# Altium footprint library Texas_Instruments.PcbLib: 113 footprints (part 4 of 8)
Each footprint in its own frame and in the unit in brackets; x right, y up, seen from the top. Pads: shape width x height; smd on the part's side, far side on the other; paste and mask are expansions set on the pad; w line width, h text height; cw(c..) or ccw(c..) is an arc to the next point about the centre after c.
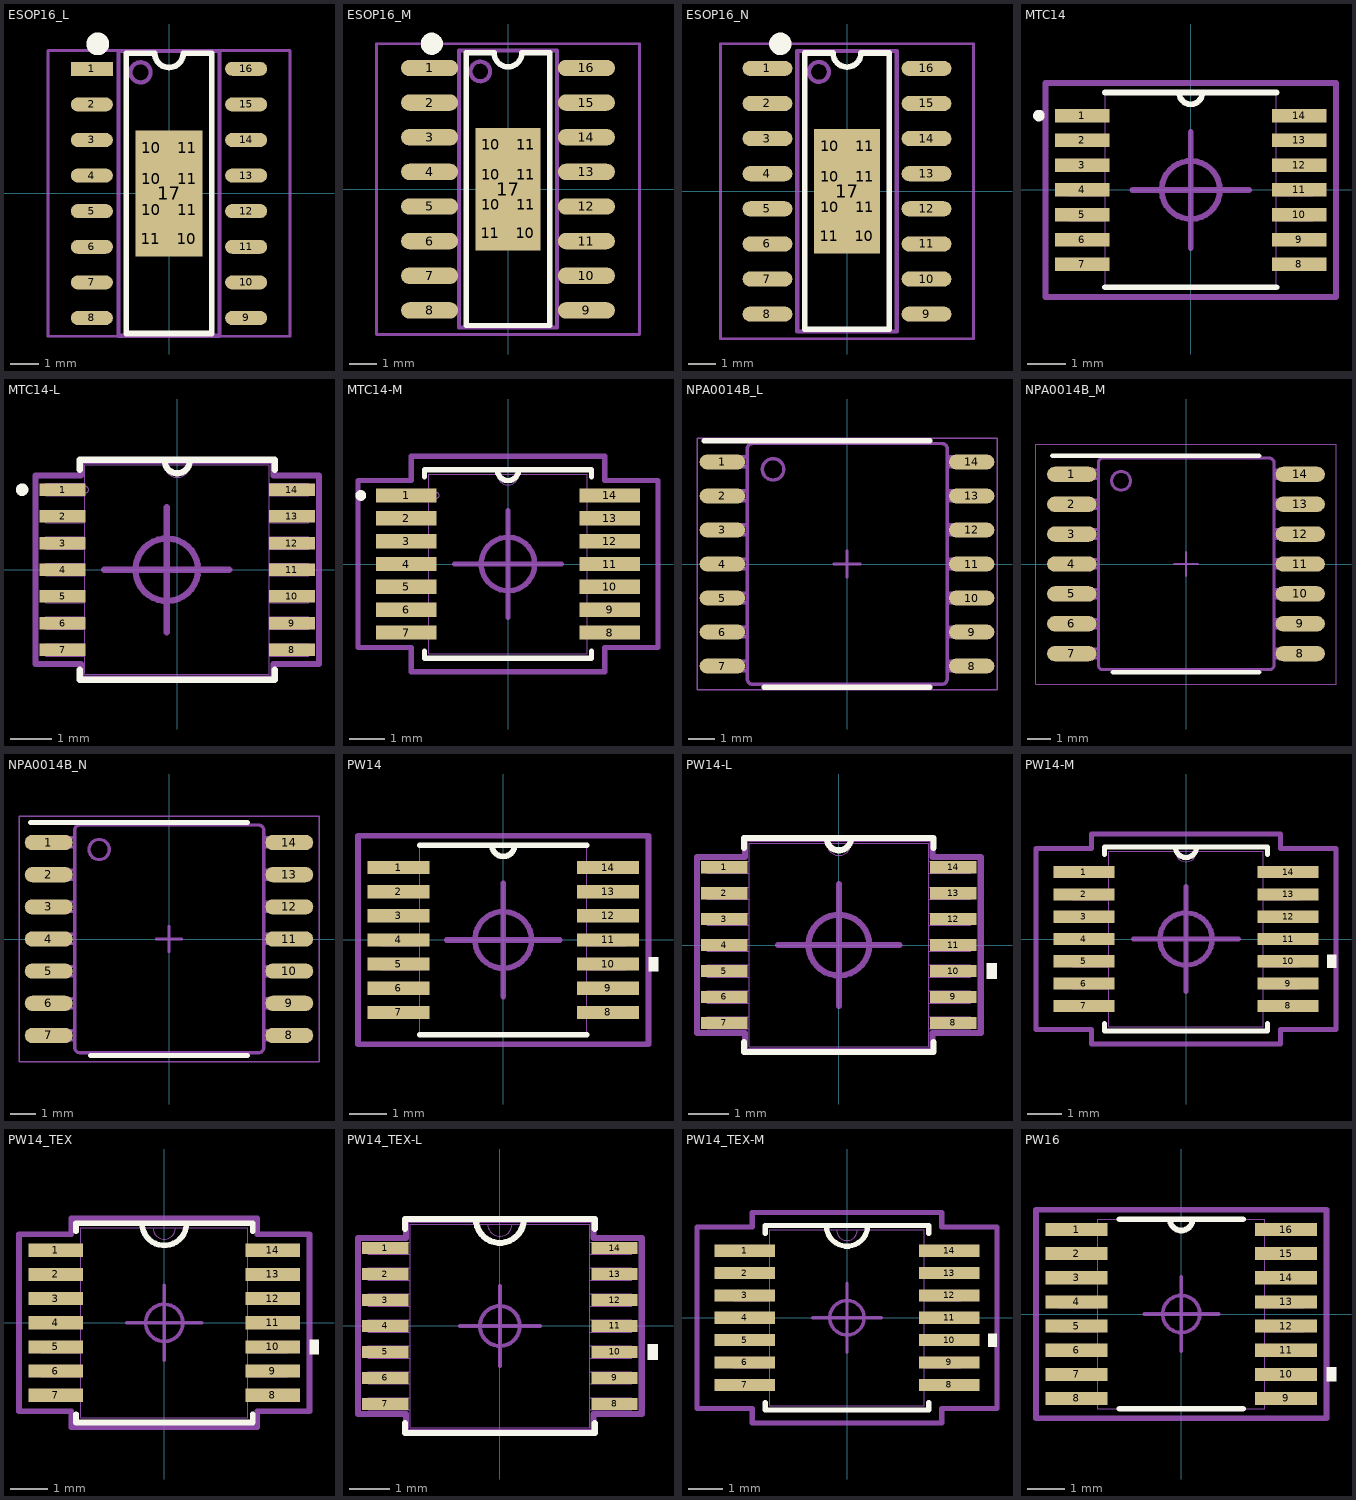
[diagram p3: the footprints below, top view; thin cyan lines are the x and y axes]

## ESOP16_L [mm] "10.3*6.2*1.8mm（长宽高）"
height 1.75
pads (25):
  rect 1.5x0.5 smd: 1(-2.752,4.445)
  oval 1.5x0.5 smd: 2(-2.752,3.175) 3(-2.752,1.905) 4(-2.752,0.635) 5(-2.752,-0.635) 6(-2.752,-1.905) 7(-2.752,-3.175) 8(-2.752,-4.445) 9(2.752,-4.445) 10(2.752,-3.175) 11(2.752,-1.905) 12(2.752,-0.635) 13(2.752,0.635) 14(2.752,1.905) 15(2.752,3.175) 16(2.752,4.445)
  rect 0.9x0.7 on Top Paste: 10(-0.625,-0.575) 10(-0.625,0.525) 10(-0.625,1.625) 10(0.625,-1.625) 11(-0.65,-1.625) 11(0.65,-0.575) 11(0.65,0.525) 11(0.65,1.625)
  rect 2.4x4.5 smd paste-3: 17(0,0)
Top Overlay:
  circle w0.5: c-2.54,5.334 r0.155
  lines w0.2: -1.524,5 -1.524,-5 1.524,-5 1.524,5
  lines w0.203: -1.524,5 -0.508,5 ccw(c0,5) 0,4.492 ccw(c0,5) 0.508,5 1.524,5
Mechanical 13:
  circle w0.15: c-1.016,4.318 r0.359
  lines w0.15: -1.8,-5.08 -1.8,5.08 1.8,5.08 1.8,-5.08 -1.8,-5.08
Mechanical 15:
  circle w0.05: c0,0 r0.35
  lines w0.05: -0.5,0 0.5,0 ; 0,-0.5 0,0.5
  lines w0.1: -4.318,-5.1 4.318,-5.1 4.318,5.1 -4.318,5.1 -4.318,-5.1
3D body "ESOP16.STEP": height 1.53, standoff -0.03, extent -3.003,-5 3.003,5

## ESOP16_M [mm] "10.3*6.2*1.8mm（长宽高）"
height 1.75
pads (25):
  oval 2.1x0.6 smd: 1(-2.875,4.445) 2(-2.875,3.175) 3(-2.875,1.905) 4(-2.875,0.635) 5(-2.875,-0.635) 6(-2.875,-1.905) 7(-2.875,-3.175) 8(-2.875,-4.445) 9(2.875,-4.445) 10(2.875,-3.175) 11(2.875,-1.905) 12(2.875,-0.635) 13(2.875,0.635) 14(2.875,1.905) 15(2.875,3.175) 16(2.875,4.445)
  rect 0.9x0.7 on Top Paste: 10(-0.625,-0.575) 10(-0.625,0.525) 10(-0.625,1.625) 10(0.625,-1.625) 11(-0.65,-1.625) 11(0.65,-0.575) 11(0.65,0.525) 11(0.65,1.625)
  rect 2.4x4.5 smd paste-3: 17(0,0)
Top Overlay:
  circle w0.5: c-2.794,5.334 r0.155
  lines w0.2: -1.524,5 -1.524,-5 1.524,-5 1.524,5
  lines w0.203: -1.524,5 -0.508,5 ccw(c0,5) 0,4.492 ccw(c0,5) 0.508,5 1.524,5
Mechanical 13:
  circle w0.15: c-1.016,4.318 r0.359
  lines w0.15: -1.8,-5.08 1.8,-5.08 1.8,5.08 -1.8,5.08 -1.8,-5.08
Mechanical 15:
  circle w0.05: c0,0 r0.35
  lines w0.05: -0.5,0 0.5,0 ; 0,-0.5 0,0.5
  lines w0.1: -4.826,-5.334 -4.826,5.334 4.826,5.334 4.826,-5.334 -4.826,-5.334
3D body "ESOP16.STEP": height 1.53, standoff -0.03, extent -3.003,-5 3.003,5

## ESOP16_N [mm] "10.3*6.2*1.8mm（长宽高）"
height 1.75
pads (25):
  oval 1.8x0.55 smd: 1(-2.877,4.445) 2(-2.877,3.175) 3(-2.877,1.905) 4(-2.877,0.635) 5(-2.877,-0.635) 6(-2.877,-1.905) 7(-2.877,-3.175) 8(-2.877,-4.445) 9(2.877,-4.445) 10(2.877,-3.175) 11(2.877,-1.905) 12(2.877,-0.635) 13(2.877,0.635) 14(2.877,1.905) 15(2.877,3.175) 16(2.877,4.445)
  rect 0.9x0.7 on Top Paste: 10(-0.625,-0.575) 10(-0.625,0.525) 10(-0.625,1.625) 10(0.625,-1.625) 11(-0.65,-1.625) 11(0.65,-0.575) 11(0.65,0.525) 11(0.65,1.625)
  rect 2.4x4.5 smd paste-3: 17(0,0)
Top Overlay:
  circle w0.5: c-2.413,5.334 r0.155
  lines w0.2: -1.524,5 -1.524,-5 1.524,-5 1.524,5
  lines w0.203: -1.524,5 -0.508,5 ccw(c0,5) 0,4.492 ccw(c0,5) 0.508,5 1.524,5
Mechanical 13:
  circle w0.15: c-1.016,4.318 r0.359
  lines w0.15: -1.8,-5.08 1.8,-5.08 1.8,5.08 -1.8,5.08 -1.8,-5.08
Mechanical 15:
  circle w0.05: c0,0 r0.35
  lines w0.05: -0.5,0 0.5,0 ; 0,-0.5 0,0.5
  lines w0.1: -4.572,-5.334 4.572,-5.334 4.572,5.334 -4.572,5.334 -4.572,-5.334
3D body "ESOP16.STEP": height 1.53, standoff -0.03, extent -3.003,-5 3.003,5

## MTC14 [mil]
pads (14):
  rect 56x14 smd: 1(-112,76.77) 2(-112,51.18) 3(-112,25.59) 4(-112,0) 5(-112,-25.59) 6(-112,-51.18) 7(-112,-76.77) 8(112,-76.77) 9(112,-51.18) 10(112,-25.59) 11(112,0) 12(112,25.59) 13(112,51.18) 14(112,76.77)
Top Overlay:
  circle w6: c-156.8,76.77 r3
  lines w6: -88.5,-100.5 88.5,-100.5 ; -88.5,100.5 88.5,100.5 ; -12,100.5 ccw(c0,100.5) 12,100.5
Mechanical 13:
  circle w0: c-156.8,76.77 r3
  lines w0: -12,100.5 ccw(c0,100.5) 12,100.5
  lines w1: -126,-82.77 -88.5,-82.77 -88.5,-70.77 -126,-70.77 -126,-82.77 ; -126,-57.18 -88.5,-57.18 -88.5,-45.18 -126,-45.18 -126,-57.18 ; -126,-31.59 -88.5,-31.59 -88.5,-19.59 -126,-19.59 -126,-31.59 ; -126,-6 -88.5,-6 -88.5,6 -126,6 -126,-6 ; -126,19.59 -88.5,19.59 -88.5,31.59 -126,31.59 -126,19.59 ; -126,45.18 -88.5,45.18 -88.5,57.18 -126,57.18 -126,45.18 ; -126,70.77 -88.5,70.77 -88.5,82.77 -126,82.77 -126,70.77 ; -88.5,-100.5 -88.5,100.5 88.5,100.5 88.5,-100.5 -88.5,-100.5 ; 88.5,-82.77 126,-82.77 126,-70.77 88.5,-70.77 88.5,-82.77 ; 88.5,-57.18 126,-57.18 126,-45.18 88.5,-45.18 88.5,-57.18 ; 88.5,-31.59 126,-31.59 126,-19.59 88.5,-19.59 88.5,-31.59 ; 88.5,-6 126,-6 126,6 88.5,6 88.5,-6 ; 88.5,19.59 126,19.59 126,31.59 88.5,31.59 88.5,19.59 ; 88.5,45.18 126,45.18 126,57.18 88.5,57.18 88.5,45.18 ; 88.5,70.77 126,70.77 126,82.77 88.5,82.77 88.5,70.77
Mechanical 15:
  circle w6: c0,0 r30
  lines w6: -60,0 60,0 ; 0,-60 0,60 ; -150,-110.5 150,-110.5 150,110.5 -150,110.5 -150,-110.5
3D body "MTC14.step": height 43.11, standoff 0, extent -125.98,-100.51 125.99,100.52

## MTC14-L [mil]
pads (14):
  rect 44x12 smd: 1(-110,76.77) 2(-110,51.18) 3(-110,25.59) 4(-110,0) 5(-110,-25.59) 6(-110,-51.18) 7(-110,-76.77) 8(110,-76.77) 9(110,-51.18) 10(110,-25.59) 11(110,0) 12(110,25.59) 13(110,51.18) 14(110,76.77)
Top Overlay:
  circle w6: c-148.8,76.77 r3
  lines w6: -93.5,-95.87 -93.5,-105.5 93.5,-105.5 93.5,-95.87 ; -93.5,95.87 -93.5,105.5 93.5,105.5 93.5,95.87 ; -12,104.5 ccw(c0,104.5) 12,104.5
Mechanical 13:
  circle w0: c-88,76.77 r3
  lines w0: -12,100.5 ccw(c0,100.5) 12,100.5
  lines w1: -126,-82.77 -88.5,-82.77 -88.5,-70.77 -126,-70.77 -126,-82.77 ; -126,-57.18 -88.5,-57.18 -88.5,-45.18 -126,-45.18 -126,-57.18 ; -126,-31.59 -88.5,-31.59 -88.5,-19.59 -126,-19.59 -126,-31.59 ; -126,-6 -88.5,-6 -88.5,6 -126,6 -126,-6 ; -126,19.59 -88.5,19.59 -88.5,31.59 -126,31.59 -126,19.59 ; -126,45.18 -88.5,45.18 -88.5,57.18 -126,57.18 -126,45.18 ; -126,70.77 -88.5,70.77 -88.5,82.77 -126,82.77 -126,70.77 ; -88.5,-100.5 -88.5,100.5 88.5,100.5 88.5,-100.5 -88.5,-100.5 ; 88.5,-82.77 126,-82.77 126,-70.77 88.5,-70.77 88.5,-82.77 ; 88.5,-57.18 126,-57.18 126,-45.18 88.5,-45.18 88.5,-57.18 ; 88.5,-31.59 126,-31.59 126,-19.59 88.5,-19.59 88.5,-31.59 ; 88.5,-6 126,-6 126,6 88.5,6 88.5,-6 ; 88.5,19.59 126,19.59 126,31.59 88.5,31.59 88.5,19.59 ; 88.5,45.18 126,45.18 126,57.18 88.5,57.18 88.5,45.18 ; 88.5,70.77 126,70.77 126,82.77 88.5,82.77 88.5,70.77
Mechanical 15:
  circle w6: c-10,0 r30
  lines w6: -70,0 50,0 ; -10,-60 -10,60 ; -136,-90.37 -92.5,-90.37 -92.5,-104.5 92.5,-104.5 92.5,-90.37 136,-90.37 136,90.37 92.5,90.37 92.5,104.5 -92.5,104.5 -92.5,90.37 -136,90.37 -136,-90.37
3D body "MTC14.step": height 43.11, standoff 0, extent -125.98,-100.51 125.99,100.52

## MTC14-M [mil]
pads (14):
  rect 68x16 smd: 1(-114,76.77) 2(-114,51.18) 3(-114,25.59) 4(-114,0) 5(-114,-25.59) 6(-114,-51.18) 7(-114,-76.77) 8(114,-76.77) 9(114,-51.18) 10(114,-25.59) 11(114,0) 12(114,25.59) 13(114,51.18) 14(114,76.77)
Top Overlay:
  circle w6: c-164.8,76.77 r3
  lines w6: -93.5,-97.87 -93.5,-105.5 93.5,-105.5 93.5,-97.87 ; -93.5,97.87 -93.5,105.5 93.5,105.5 93.5,97.87 ; -12,105.5 ccw(c0,105.5) 12,105.5
Mechanical 13:
  circle w0: c-80,76.77 r3
  lines w0: -12,100.5 ccw(c0,100.5) 12,100.5
  lines w1: -126,-82.77 -88.5,-82.77 -88.5,-70.77 -126,-70.77 -126,-82.77 ; -126,-57.18 -88.5,-57.18 -88.5,-45.18 -126,-45.18 -126,-57.18 ; -126,-31.59 -88.5,-31.59 -88.5,-19.59 -126,-19.59 -126,-31.59 ; -126,-6 -88.5,-6 -88.5,6 -126,6 -126,-6 ; -126,19.59 -88.5,19.59 -88.5,31.59 -126,31.59 -126,19.59 ; -126,45.18 -88.5,45.18 -88.5,57.18 -126,57.18 -126,45.18 ; -126,70.77 -88.5,70.77 -88.5,82.77 -126,82.77 -126,70.77 ; -88.5,-100.5 -88.5,100.5 88.5,100.5 88.5,-100.5 -88.5,-100.5 ; 88.5,-82.77 126,-82.77 126,-70.77 88.5,-70.77 88.5,-82.77 ; 88.5,-57.18 126,-57.18 126,-45.18 88.5,-45.18 88.5,-57.18 ; 88.5,-31.59 126,-31.59 126,-19.59 88.5,-19.59 88.5,-31.59 ; 88.5,-6 126,-6 126,6 88.5,6 88.5,-6 ; 88.5,19.59 126,19.59 126,31.59 88.5,31.59 88.5,19.59 ; 88.5,45.18 126,45.18 126,57.18 88.5,57.18 88.5,45.18 ; 88.5,70.77 126,70.77 126,82.77 88.5,82.77 88.5,70.77
Mechanical 15:
  circle w6: c0,0 r30
  lines w6: -60,0 60,0 ; 0,-60 0,60 ; -168,-93.57 -108.5,-93.57 -108.5,-120.5 108.5,-120.5 108.5,-93.57 168,-93.57 168,93.57 108.5,93.57 108.5,120.5 -108.5,120.5 -108.5,93.57 -168,93.57 -168,-93.57
3D body "MTC14.step": height 43.11, standoff 0, extent -125.98,-100.51 125.99,100.52

## NPA0014B_L [mm]
pads (14):
  oval 1.7x0.55 smd: 1(-4.65,3.81) 2(-4.65,2.54) 3(-4.65,1.27) 4(-4.65,0) 5(-4.65,-1.27) 6(-4.65,-2.54) 7(-4.65,-3.81) 8(4.65,-3.81) 9(4.65,-2.54) 10(4.65,-1.27) 11(4.65,0) 12(4.65,1.27) 13(4.65,2.54) 14(4.65,3.81)
Top Overlay:
  lines w0.2: -5.325,4.6 3.1,4.6 ; -3.1,-4.6 3.1,-4.6
Mechanical 13:
  drawing of 186 lines, arcs and shapes, not listed
Mechanical 15:
  lines w0.05: -5.6,-4.7 5.6,-4.7 5.6,4.7 -5.6,4.7 -5.6,-4.7
  lines w0.1: -0.5,0 0.5,0 ; 0,-0.5 0,0.5
3D body "NPA0014B.stp": height 2.44, standoff -0.02, extent -5.143,-4.496 5.143,4.496

## NPA0014B_M [mm]
pads (14):
  oval 2.1x0.65 smd: 1(-4.85,3.81) 2(-4.85,2.54) 3(-4.85,1.27) 4(-4.85,0) 5(-4.85,-1.27) 6(-4.85,-2.54) 7(-4.85,-3.81) 8(4.85,-3.81) 9(4.85,-2.54) 10(4.85,-1.27) 11(4.85,0) 12(4.85,1.27) 13(4.85,2.54) 14(4.85,3.81)
Top Overlay:
  lines w0.2: -5.675,4.6 3.1,4.6 ; -3.1,-4.6 3.1,-4.6
Mechanical 13:
  drawing of 186 lines, arcs and shapes, not listed
Mechanical 15:
  lines w0.05: -6.375,-5.1 -6.375,5.1 6.375,5.1 6.375,-5.1 -6.375,-5.1
  lines w0.1: -0.5,0 0.5,0 ; 0,-0.5 0,0.5
3D body "NPA0014B.stp": height 2.44, standoff -0.02, extent -5.143,-4.496 5.143,4.496

## NPA0014B_N [mm]
pads (14):
  oval 1.9x0.6 smd: 1(-4.75,3.81) 2(-4.75,2.54) 3(-4.75,1.27) 4(-4.75,0) 5(-4.75,-1.27) 6(-4.75,-2.54) 7(-4.75,-3.81) 8(4.75,-3.81) 9(4.75,-2.54) 10(4.75,-1.27) 11(4.75,0) 12(4.75,1.27) 13(4.75,2.54) 14(4.75,3.81)
Top Overlay:
  lines w0.2: -5.475,4.6 3.1,4.6 ; -3.1,-4.6 3.1,-4.6
Mechanical 13:
  drawing of 186 lines, arcs and shapes, not listed
Mechanical 15:
  lines w0.05: -5.925,-4.85 5.925,-4.85 5.925,4.85 -5.925,4.85 -5.925,-4.85
  lines w0.1: -0.5,0 0.5,0 ; 0,-0.5 0,0.5
3D body "NPA0014B.stp": height 2.44, standoff -0.02, extent -5.143,-4.496 5.143,4.496

## PW14 [mil]
pads (14):
  rect 66x14 smd: 1(-111,76.77) 2(-111,51.18) 3(-111,25.59) 4(-111,0) 5(-111,-25.59) 6(-111,-51.18) 7(-111,-76.77) 8(111,-76.77) 9(111,-51.18) 10(111,-25.59) 11(111,0) 12(111,25.59) 13(111,51.18) 14(111,76.77)
Top Overlay:
  region: 154,-18.09 164,-18.09 164,-33.09 154,-33.09
  lines w6: -88.5,-100.5 88.5,-100.5 ; -88.5,100.5 88.5,100.5 ; -12,100.5 ccw(c0,100.5) 12,100.5
Mechanical 13:
  lines w0: -12,100.5 ccw(c0,100.5) 12,100.5
  lines w1: -130,-82.77 -88.5,-82.77 -88.5,-70.77 -130,-70.77 -130,-82.77 ; -130,-57.18 -88.5,-57.18 -88.5,-45.18 -130,-45.18 -130,-57.18 ; -130,-31.59 -88.5,-31.59 -88.5,-19.59 -130,-19.59 -130,-31.59 ; -130,-6 -88.5,-6 -88.5,6 -130,6 -130,-6 ; -130,19.59 -88.5,19.59 -88.5,31.59 -130,31.59 -130,19.59 ; -130,45.18 -88.5,45.18 -88.5,57.18 -130,57.18 -130,45.18 ; -130,70.77 -88.5,70.77 -88.5,82.77 -130,82.77 -130,70.77 ; -88.5,-100.5 -88.5,100.5 88.5,100.5 88.5,-100.5 -88.5,-100.5 ; 88.5,-82.77 130,-82.77 130,-70.77 88.5,-70.77 88.5,-82.77 ; 88.5,-57.18 130,-57.18 130,-45.18 88.5,-45.18 88.5,-57.18 ; 88.5,-31.59 130,-31.59 130,-19.59 88.5,-19.59 88.5,-31.59 ; 88.5,-6 130,-6 130,6 88.5,6 88.5,-6 ; 88.5,19.59 130,19.59 130,31.59 88.5,31.59 88.5,19.59 ; 88.5,45.18 130,45.18 130,57.18 88.5,57.18 88.5,45.18 ; 88.5,70.77 130,70.77 130,82.77 88.5,82.77 88.5,70.77
Mechanical 15:
  circle w6: c0,0 r30
  lines w6: -60,0 60,0 ; 0,-60 0,60 ; -154,-110.5 154,-110.5 154,110.5 -154,110.5 -154,-110.5
3D body "PW14.step": height 47.09, standoff 0, extent -130,-100.51 130,100.52

## PW14-L [mil]
pads (14):
  rect 46x12 smd: 1(-113,76.77) 2(-113,51.18) 3(-113,25.59) 4(-113,0) 5(-113,-25.59) 6(-113,-51.18) 7(-113,-76.77) 8(113,-76.77) 9(113,-51.18) 10(113,-25.59) 11(113,0) 12(113,25.59) 13(113,51.18) 14(113,76.77)
Top Overlay:
  region: 146,-18.09 156,-18.09 156,-33.09 146,-33.09
  lines w6: -93.5,-95.87 -93.5,-105.5 93.5,-105.5 93.5,-95.87 ; -93.5,95.87 -93.5,105.5 93.5,105.5 93.5,95.87 ; -12,105.5 ccw(c0,105.5) 12,105.5
Mechanical 13:
  lines w0: -12,100.5 ccw(c0,100.5) 12,100.5
  lines w1: -130,-82.77 -130,-70.77 -88.5,-70.77 -88.5,-82.77 -130,-82.77 ; -130,-57.18 -130,-45.18 -88.5,-45.18 -88.5,-57.18 -130,-57.18 ; -130,-31.59 -130,-19.59 -88.5,-19.59 -88.5,-31.59 -130,-31.59 ; -130,-6 -130,6 -88.5,6 -88.5,-6 -130,-6 ; -130,19.59 -130,31.59 -88.5,31.59 -88.5,19.59 -130,19.59 ; -130,45.18 -130,57.18 -88.5,57.18 -88.5,45.18 -130,45.18 ; -130,70.77 -130,82.77 -88.5,82.77 -88.5,70.77 -130,70.77 ; -88.5,-100.5 88.5,-100.5 88.5,100.5 -88.5,100.5 -88.5,-100.5 ; 88.5,-82.77 88.5,-70.77 130,-70.77 130,-82.77 88.5,-82.77 ; 88.5,-57.18 88.5,-45.18 130,-45.18 130,-57.18 88.5,-57.18 ; 88.5,-31.59 88.5,-19.59 130,-19.59 130,-31.59 88.5,-31.59 ; 88.5,-6 88.5,6 130,6 130,-6 88.5,-6 ; 88.5,19.59 88.5,31.59 130,31.59 130,19.59 88.5,19.59 ; 88.5,45.18 88.5,57.18 130,57.18 130,45.18 88.5,45.18 ; 88.5,70.77 88.5,82.77 130,82.77 130,70.77 88.5,70.77
Mechanical 15:
  circle w6: c0,0 r30
  lines w6: -60,0 60,0 ; 0,-60 0,60 ; -140,-86.77 -140,86.77 -92.5,86.77 -92.5,104.5 92.5,104.5 92.5,86.77 140,86.77 140,-86.77 92.5,-86.77 92.5,-104.5 -92.5,-104.5 -92.5,-86.77 -140,-86.77
3D body "PW14.step": height 47.09, standoff 0, extent -130,-100.51 130,100.52

## PW14-M [mil]
pads (14):
  rect 70x14 smd: 1(-117,76.77) 2(-117,51.18) 3(-117,25.59) 4(-117,0) 5(-117,-25.59) 6(-117,-51.18) 7(-117,-76.77) 8(117,-76.77) 9(117,-51.18) 10(117,-25.59) 11(117,0) 12(117,25.59) 13(117,51.18) 14(117,76.77)
Top Overlay:
  region: 162,-18.09 172,-18.09 172,-33.09 162,-33.09
  lines w6: -93.5,-96.87 -93.5,-105.5 93.5,-105.5 93.5,-96.87 ; -93.5,96.87 -93.5,105.5 93.5,105.5 93.5,96.87 ; -12,105.5 ccw(c0,105.5) 12,105.5
Mechanical 13:
  lines w0: -12,100.5 ccw(c0,100.5) 12,100.5
  lines w1: -130,-82.77 -88.5,-82.77 -88.5,-70.77 -130,-70.77 -130,-82.77 ; -130,-57.18 -88.5,-57.18 -88.5,-45.18 -130,-45.18 -130,-57.18 ; -130,-31.59 -88.5,-31.59 -88.5,-19.59 -130,-19.59 -130,-31.59 ; -130,-6 -88.5,-6 -88.5,6 -130,6 -130,-6 ; -130,19.59 -88.5,19.59 -88.5,31.59 -130,31.59 -130,19.59 ; -130,45.18 -88.5,45.18 -88.5,57.18 -130,57.18 -130,45.18 ; -130,70.77 -88.5,70.77 -88.5,82.77 -130,82.77 -130,70.77 ; -88.5,-100.5 -88.5,100.5 88.5,100.5 88.5,-100.5 -88.5,-100.5 ; 88.5,-82.77 130,-82.77 130,-70.77 88.5,-70.77 88.5,-82.77 ; 88.5,-57.18 130,-57.18 130,-45.18 88.5,-45.18 88.5,-57.18 ; 88.5,-31.59 130,-31.59 130,-19.59 88.5,-19.59 88.5,-31.59 ; 88.5,-6 130,-6 130,6 88.5,6 88.5,-6 ; 88.5,19.59 130,19.59 130,31.59 88.5,31.59 88.5,19.59 ; 88.5,45.18 130,45.18 130,57.18 88.5,57.18 88.5,45.18 ; 88.5,70.77 130,70.77 130,82.77 88.5,82.77 88.5,70.77
Mechanical 15:
  circle w6: c0,0 r30
  lines w6: -60,0 60,0 ; 0,-60 0,60 ; -172,-103.77 -108.5,-103.77 -108.5,-120.5 108.5,-120.5 108.5,-103.77 172,-103.77 172,103.77 108.5,103.77 108.5,120.5 -108.5,120.5 -108.5,103.77 -172,103.77 -172,-103.77
3D body "PW14.step": height 47.09, standoff 0, extent -130,-100.51 130,100.52

## PW14_TEX [mil]
pads (14):
  rect 57.56x13.97 smd: 1(-115,76.77) 2(-115,51.18) 3(-115,25.59) 4(-115,0) 5(-115,-25.59) 6(-115,-51.18) 7(-115,-76.77) 8(115,-76.77) 9(115,-51.18) 10(115,-25.59) 11(115,0) 12(115,25.59) 13(115,51.18) 14(115,76.77)
Top Overlay:
  region: 153.78,-18.09 163.78,-18.09 163.78,-33.09 153.78,-33.09
  lines w5.98: -23.62,105.5 ccw(c0,105.5) 23.62,105.5
  lines w6: -93.5,-96.86 -93.5,-105.5 93.5,-105.5 93.5,-96.86 ; -93.5,96.86 -93.5,105.5 93.5,105.5 93.5,96.86
Mechanical 13:
  lines w0: -12,100.5 ccw(c0,100.5) 12,100.5
  lines w1: -130,-82.77 -130,-70.77 -88.5,-70.77 -88.5,-82.77 -130,-82.77 ; -130,-57.18 -130,-45.18 -88.5,-45.18 -88.5,-57.18 -130,-57.18 ; -130,-31.59 -130,-19.59 -88.5,-19.59 -88.5,-31.59 -130,-31.59 ; -130,-6 -130,6 -88.5,6 -88.5,-6 -130,-6 ; -130,19.59 -130,31.59 -88.5,31.59 -88.5,19.59 -130,19.59 ; -130,45.18 -130,57.18 -88.5,57.18 -88.5,45.18 -130,45.18 ; -130,70.77 -130,82.77 -88.5,82.77 -88.5,70.77 -130,70.77 ; -88.5,-100.5 88.5,-100.5 88.5,100.5 -88.5,100.5 -88.5,-100.5 ; 88.5,-82.77 88.5,-70.77 130,-70.77 130,-82.77 88.5,-82.77 ; 88.5,-57.18 88.5,-45.18 130,-45.18 130,-57.18 88.5,-57.18 ; 88.5,-31.59 88.5,-19.59 130,-19.59 130,-31.59 88.5,-31.59 ; 88.5,-6 88.5,6 130,6 130,-6 88.5,-6 ; 88.5,19.59 88.5,31.59 130,31.59 130,19.59 88.5,19.59 ; 88.5,45.18 88.5,57.18 130,57.18 130,45.18 88.5,45.18 ; 88.5,70.77 88.5,82.77 130,82.77 130,70.77 88.5,70.77
Mechanical 15:
  circle w3.94: c0,0 r19.68
  lines w3.94: -39.37,0 0,0 ; 0,-39.37 0,0 ; 0,39.37 0,0 ; 39.37,0 0,0
  lines w6: -153.78,-93.76 -153.78,93.76 -98.5,93.76 -98.5,110.5 98.5,110.5 98.5,93.76 153.78,93.76 153.78,-93.76 98.5,-93.76 98.5,-110.5 -98.5,-110.5 -98.5,-93.76 -153.78,-93.76
3D body "PW14_TEX.step": height 47.09, standoff 0, extent -129.99,-100.51 130.01,100.52

## PW14_TEX-L [mil]
pads (14):
  rect 45.75x12 smd: 1(-113.03,76.77) 2(-113.03,51.18) 3(-113.03,25.59) 4(-113.03,0) 5(-113.03,-25.59) 6(-113.03,-51.18) 7(-113.03,-76.77) 8(113.03,-76.77) 9(113.03,-51.18) 10(113.03,-25.59) 11(113.03,0) 12(113.03,25.59) 13(113.03,51.18) 14(113.03,76.77)
Top Overlay:
  region: 145.91,-18.09 155.91,-18.09 155.91,-33.09 145.91,-33.09
  lines w5.98: -23.62,105.5 ccw(c0,105.5) 23.62,105.5
  lines w6: -93.5,-95.87 -93.5,-105.5 93.5,-105.5 93.5,-95.87 ; -93.5,95.87 -93.5,105.5 93.5,105.5 93.5,95.87
Mechanical 13:
  lines w0: -12,100.5 ccw(c0,100.5) 12,100.5
  lines w1: -130,-82.77 -130,-70.77 -88.5,-70.77 -88.5,-82.77 -130,-82.77 ; -130,-57.18 -130,-45.18 -88.5,-45.18 -88.5,-57.18 -130,-57.18 ; -130,-31.59 -130,-19.59 -88.5,-19.59 -88.5,-31.59 -130,-31.59 ; -130,-6 -130,6 -88.5,6 -88.5,-6 -130,-6 ; -130,19.59 -130,31.59 -88.5,31.59 -88.5,19.59 -130,19.59 ; -130,45.18 -130,57.18 -88.5,57.18 -88.5,45.18 -130,45.18 ; -130,70.77 -130,82.77 -88.5,82.77 -88.5,70.77 -130,70.77 ; -88.5,-100.5 88.5,-100.5 88.5,100.5 -88.5,100.5 -88.5,-100.5 ; 88.5,-82.77 88.5,-70.77 130,-70.77 130,-82.77 88.5,-82.77 ; 88.5,-57.18 88.5,-45.18 130,-45.18 130,-57.18 88.5,-57.18 ; 88.5,-31.59 88.5,-19.59 130,-19.59 130,-31.59 88.5,-31.59 ; 88.5,-6 88.5,6 130,6 130,-6 88.5,-6 ; 88.5,19.59 88.5,31.59 130,31.59 130,19.59 88.5,19.59 ; 88.5,45.18 88.5,57.18 130,57.18 130,45.18 88.5,45.18 ; 88.5,70.77 88.5,82.77 130,82.77 130,70.77 88.5,70.77
Mechanical 15:
  circle w3.94: c0,0 r19.68
  lines w3.94: -39.37,0 0,0 ; 0,-39.37 0,0 ; 0,39.37 0,0 ; 39.37,0 0,0
  lines w6: -139.91,-86.77 -139.91,86.77 -92.5,86.77 -92.5,104.5 92.5,104.5 92.5,86.77 139.91,86.77 139.91,-86.77 92.5,-86.77 92.5,-104.5 -92.5,-104.5 -92.5,-86.77 -139.91,-86.77
3D body "PW14_TEX.step": height 47.09, standoff 0, extent -129.99,-100.51 130.01,100.52

## PW14_TEX-M [mm]
pads (14):
  rect 1.762x0.355 smd: 1(-2.971,1.95) 2(-2.971,1.3) 3(-2.971,0.65) 4(-2.971,0) 5(-2.971,-0.65) 6(-2.971,-1.3) 7(-2.971,-1.95) 8(2.971,-1.95) 9(2.971,-1.3) 10(2.971,-0.65) 11(2.971,0) 12(2.971,0.65) 13(2.971,1.3) 14(2.971,1.95)
Top Overlay:
  region: 4.106,-0.459 4.36,-0.459 4.36,-0.84 4.106,-0.84
  lines w0.152: -2.375,-2.46 -2.375,-2.68 2.375,-2.68 2.375,-2.46 ; -2.375,2.46 -2.375,2.68 2.375,2.68 2.375,2.46 ; -0.6,2.68 ccw(c0,2.68) 0.6,2.68
Mechanical 13:
  lines w0: -0.305,2.553 ccw(c0,2.553) 0.305,2.553
  lines w0.025: -3.302,-2.102 -2.248,-2.102 -2.248,-1.798 -3.302,-1.798 -3.302,-2.102 ; -3.302,-1.452 -2.248,-1.452 -2.248,-1.148 -3.302,-1.148 -3.302,-1.452 ; -3.302,-0.802 -2.248,-0.802 -2.248,-0.498 -3.302,-0.498 -3.302,-0.802 ; -3.302,-0.152 -2.248,-0.152 -2.248,0.152 -3.302,0.152 -3.302,-0.152 ; -3.302,0.498 -2.248,0.498 -2.248,0.802 -3.302,0.802 -3.302,0.498 ; -3.302,1.148 -2.248,1.148 -2.248,1.452 -3.302,1.452 -3.302,1.148 ; -3.302,1.798 -2.248,1.798 -2.248,2.102 -3.302,2.102 -3.302,1.798 ; -2.248,-2.553 -2.248,2.553 2.248,2.553 2.248,-2.553 -2.248,-2.553 ; 2.248,-2.102 3.302,-2.102 3.302,-1.798 2.248,-1.798 2.248,-2.102 ; 2.248,-1.452 3.302,-1.452 3.302,-1.148 2.248,-1.148 2.248,-1.452 ; 2.248,-0.802 3.302,-0.802 3.302,-0.498 2.248,-0.498 2.248,-0.802 ; 2.248,-0.152 3.302,-0.152 3.302,0.152 2.248,0.152 2.248,-0.152 ; 2.248,0.498 3.302,0.498 3.302,0.802 2.248,0.802 2.248,0.498 ; 2.248,1.148 3.302,1.148 3.302,1.452 2.248,1.452 2.248,1.148 ; 2.248,1.798 3.302,1.798 3.302,2.102 2.248,2.102 2.248,1.798
Mechanical 15:
  circle w0.1: c0,0 r0.5
  lines w0.1: -1,0 0,0 ; 0,-1 0,0 ; 0,1 0,0 ; 1,0 0,0
  lines w0.152: -4.36,-2.635 -2.756,-2.635 -2.756,-3.061 2.756,-3.061 2.756,-2.635 4.36,-2.635 4.36,2.635 2.756,2.635 2.756,3.061 -2.756,3.061 -2.756,2.635 -4.36,2.635 -4.36,-2.635
3D body "PW14_TEX.step": height 1.2, standoff 0, extent -3.302,-2.553 3.302,2.553

## PW16 [mil]
pads (16):
  rect 66x14 smd: 1(-111,89.57) 2(-111,63.98) 3(-111,38.39) 4(-111,12.8) 5(-111,-12.8) 6(-111,-38.39) 7(-111,-63.98) 8(-111,-89.57) 9(111,-89.57) 10(111,-63.98) 11(111,-38.39) 12(111,-12.8) 13(111,12.8) 14(111,38.39) 15(111,63.98) 16(111,89.57)
Top Overlay:
  region: 154,-56.48 164,-56.48 164,-71.48 154,-71.48
  lines w6: -65.5,-100.5 65.5,-100.5 ; -65.5,100.5 65.5,100.5 ; -12,100.5 ccw(c0,100.5) 12,100.5
Mechanical 13:
  lines w0: -12,100.5 ccw(c0,100.5) 12,100.5
  lines w1: -130,-95.57 -88.5,-95.57 -88.5,-83.57 -130,-83.57 -130,-95.57 ; -130,-69.98 -88.5,-69.98 -88.5,-57.98 -130,-57.98 -130,-69.98 ; -130,-44.39 -88.5,-44.39 -88.5,-32.39 -130,-32.39 -130,-44.39 ; -130,-18.8 -88.5,-18.8 -88.5,-6.8 -130,-6.8 -130,-18.8 ; -130,6.8 -88.5,6.8 -88.5,18.8 -130,18.8 -130,6.8 ; -130,32.39 -88.5,32.39 -88.5,44.39 -130,44.39 -130,32.39 ; -130,57.98 -88.5,57.98 -88.5,69.98 -130,69.98 -130,57.98 ; -130,83.57 -88.5,83.57 -88.5,95.57 -130,95.57 -130,83.57 ; -88.5,-100.5 -88.5,100.5 88.5,100.5 88.5,-100.5 -88.5,-100.5 ; 88.5,-95.57 130,-95.57 130,-83.57 88.5,-83.57 88.5,-95.57 ; 88.5,-69.98 130,-69.98 130,-57.98 88.5,-57.98 88.5,-69.98 ; 88.5,-44.39 130,-44.39 130,-32.39 88.5,-32.39 88.5,-44.39 ; 88.5,-18.8 130,-18.8 130,-6.8 88.5,-6.8 88.5,-18.8 ; 88.5,6.8 130,6.8 130,18.8 88.5,18.8 88.5,6.8 ; 88.5,32.39 130,32.39 130,44.39 88.5,44.39 88.5,32.39 ; 88.5,57.98 130,57.98 130,69.98 88.5,69.98 88.5,57.98 ; 88.5,83.57 130,83.57 130,95.57 88.5,95.57 88.5,83.57
Mechanical 15:
  circle w3.94: c0,0 r19.68
  lines w3.94: -39.37,0 0,0 ; 0,-39.37 0,0 ; 0,39.37 0,0 ; 39.37,0 0,0
  lines w6: -154,-110.5 154,-110.5 154,110.5 -154,110.5 -154,-110.5
3D body "PW16.step": height 47.09, standoff 0, extent -130,-100.51 130,100.52